# EAGLE library part SAMACSYS_PARTS_V23086C2001A403 (library trans-emu)
DPDT PCB Mount Non-Latching Relay, 12V dc Source: Datasheet <http://www.te.com/commerce/DocumentDelivery/DDEController?Action=showdoc&DocId=Data SheetV23086-X0000-A0020717pdfEnglishENG_DS_V23086-X0000-A002_0717.pdf1413009-9>
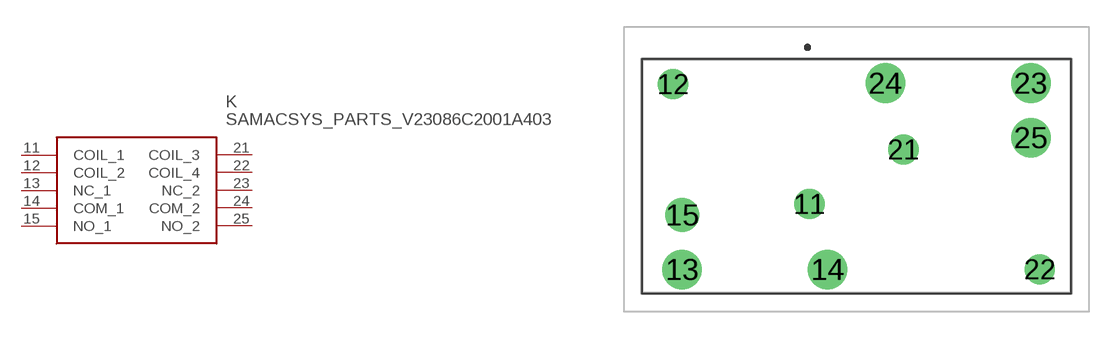
[diagram p3: symbol with the pads of SAMACSYS_PARTS_V23086C2001A403; footprint SAMACSYS_PARTS_V23086C2001A403]

Designator prefix K

## SAMACSYS_PARTS_V23086C2001A403 (ARROW_PART_NUMBER: V23086C2001A403; ARROW_PRICE-STOCK: http://www.arrow.com/en/products/v23086c2001a403/te-connectivity; DESCRIPTION: DPDT PCB Mount Non-Latching Relay, 12V dc; HEIGHT: 10mm; MANUFACTURER_NAME: TE Connectivity; MANUFACTURER_PART_NUMBER: V23086C2001A403; MOUSER_PART_NUMBER: 571-1413009-9; MOUSER_PRICE-STOCK: https://www.mouser.co.uk/ProductDetail/TE-Connectivity-AMP/V23086C2001A403?qs=NEWnq6vH5Lf200SrWeC2iA%3D%3D)  [SAMACSYS_PARTS_V23086C2001A403]
11  COIL_1
12  COIL_2
13  NC_1
14  COM_1
15  NO_1
21  COIL_3
22  COIL_4
23  NC_2
24  COM_2
25  NO_2

## Footprint SAMACSYS_PARTS_V23086C2001A403 (pad centres in mm)
V23086C2001A403
drill 1.11 pad 1.665: 11 -2.585,-1.909; 12 -10.085,4.691; 21 2.585,1.091; 22 10.085,-5.509
drill 1.45 pad 2.175: 13 -9.585,-5.509; 14 -1.585,-5.509; 23 9.585,4.751; 24 1.585,4.751; 25 9.585,1.751
drill 1.25 pad 1.875: 15 -9.585,-2.509